# EAGLE library part LM2675 (library wg_library)
LM2675 SIMPLE SWITCHER® Power Converter High Efficiency 1-A Step-Down Voltage Regulatorr Source: http://www.ti.com/lit/ds/symlink/lm2675.pdf
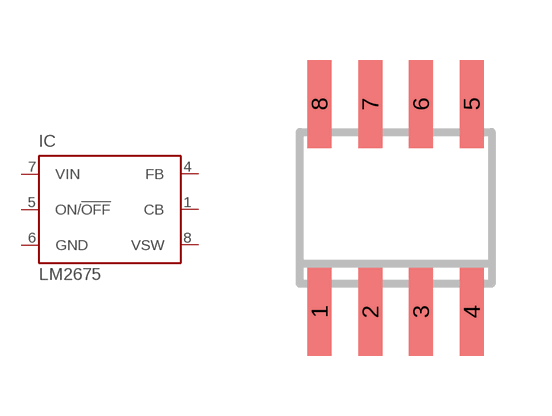
[diagram p11: symbol with the pads of SO8; footprint SO8]

Designator prefix IC

## LM2675D  [SO8]
1  CB  in
4  FB  in
5  ON/!OFF  in
6  GND  pwr
7  VIN  in
8  VSW  out

## Footprint SO8 (pad centres in mm)
smd 0.6 x 2.2: 1 -1.905,-2.6; 2 -0.635,-2.6; 3 0.635,-2.6; 4 1.905,-2.6; 5 1.905,2.6; 6 0.635,2.6; 7 -0.635,2.6; 8 -1.905,2.6